# EAGLE library part TMS320F2806*PZ (library ic-TI-DSP)
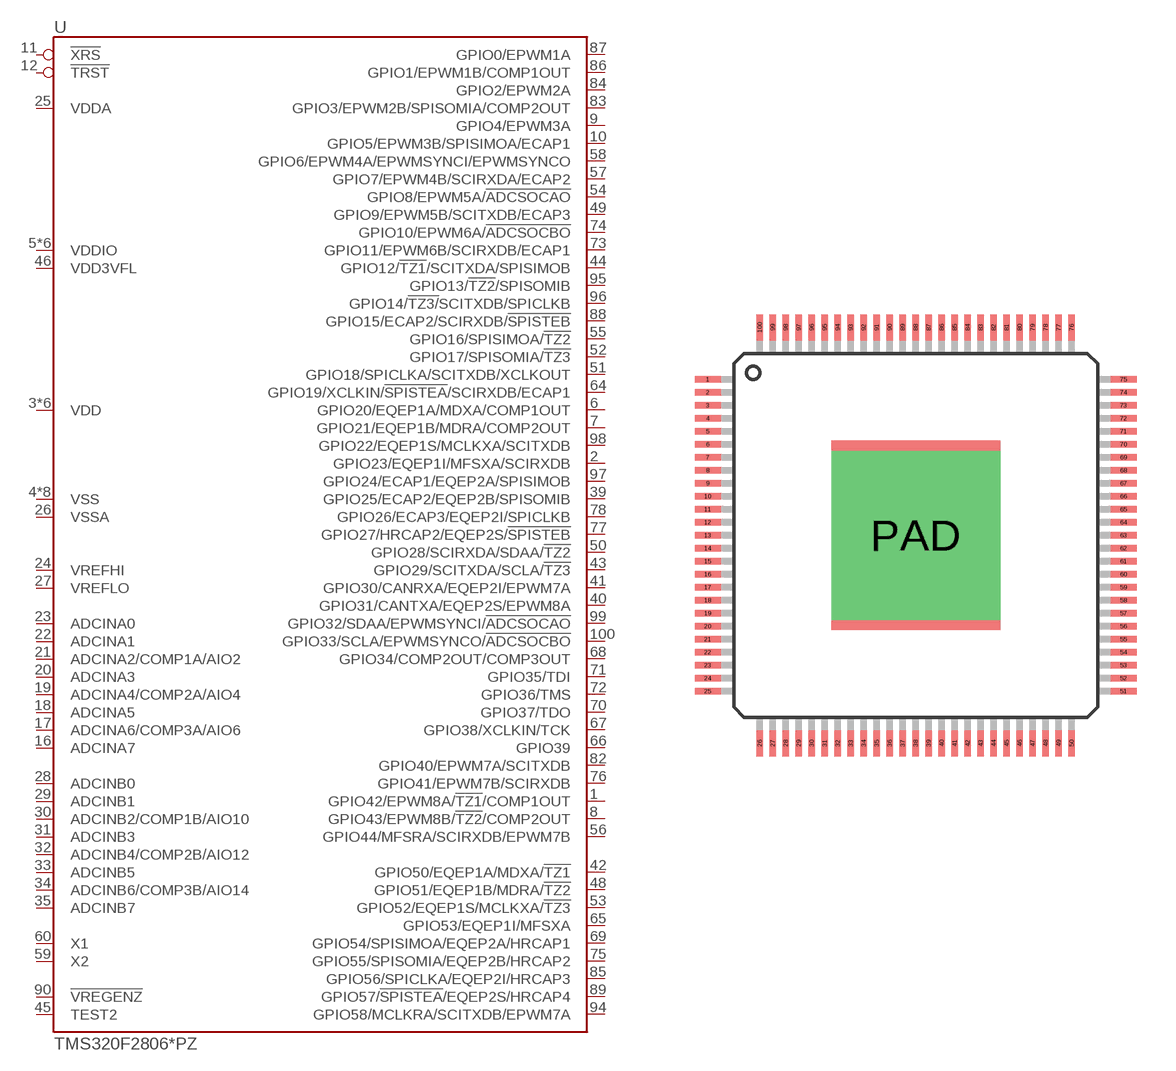
[diagram p4: symbol with the pads of QFP100-0.5-PAD; footprint QFP100-0.5-PAD]

Designator prefix U

## TMS320F28062PZP, TMS320F28063PZP, TMS320F28064PZP, TMS320F28065PZP, TMS320F28066PZP, TMS320F28067PZP, TMS320F28068PZP, TMS320F28069PZP  [QFP100-0.5-PAD]
1  GPIO42/EPWM8A/!TZ1!/COMP1OUT
2  GPIO23/EQEP1I/MFSXA/SCIRXDB
3  VDD
4  VSS
5  VDDIO
6  GPIO20/EQEP1A/MDXA/COMP1OUT
7  GPIO21/EQEP1B/MDRA/COMP2OUT
8  GPIO43/EPWM8B/!TZ2!/COMP2OUT
9  GPIO4/EPWM3A
10  GPIO5/EPWM3B/SPISIMOA/ECAP1
11  !XRS
12  !TRST
13  VDDIO
14  VDD
15  VSS
16  ADCINA7
17  ADCINA6/COMP3A/AIO6
18  ADCINA5
19  ADCINA4/COMP2A/AIO4
20  ADCINA3
21  ADCINA2/COMP1A/AIO2
22  ADCINA1
23  ADCINA0
24  VREFHI
25  VDDA
26  VSSA
27  VREFLO
28  ADCINB0
29  ADCINB1
30  ADCINB2/COMP1B/AIO10
31  ADCINB3
32  ADCINB4/COMP2B/AIO12
33  ADCINB5
34  ADCINB6/COMP3B/AIO14
35  ADCINB7
36  VSS
37  VDD
38  VDDIO
39  GPIO25/ECAP2/EQEP2B/SPISOMIB
40  GPIO31/CANTXA/EQEP2S/EPWM8A
41  GPIO30/CANRXA/EQEP2I/EPWM7A
42  GPIO50/EQEP1A/MDXA/!TZ1!
43  GPIO29/SCITXDA/SCLA/!TZ3!
44  GPIO12/!TZ1!/SCITXDA/SPISIMOB
45  TEST2
46  VDD3VFL
47  VSS
48  GPIO51/EQEP1B/MDRA/!TZ2!
49  GPIO9/EPWM5B/SCITXDB/ECAP3
50  GPIO28/SCIRXDA/SDAA/!TZ2!
51  GPIO18/SPICLKA/SCITXDB/XCLKOUT
52  GPIO17/SPISOMIA/!TZ3!
53  GPIO52/EQEP1S/MCLKXA/!TZ3!
54  GPIO8/EPWM5A/!ADCSOCAO!
55  GPIO16/SPISIMOA/!TZ2!
56  GPIO44/MFSRA/SCIRXDB/EPWM7B
57  GPIO7/EPWM4B/SCIRXDA/ECAP2
58  GPIO6/EPWM4A/EPWMSYNCI/EPWMSYNCO
59  X2
60  X1
61  VDDIO
62  VSS
63  VDD
64  GPIO19/XCLKIN/!SPISTEA!/SCIRXDB/ECAP1
65  GPIO53/EQEP1I/MFSXA
66  GPIO39
67  GPIO38/XCLKIN/TCK
68  GPIO34/COMP2OUT/COMP3OUT
69  GPIO54/SPISIMOA/EQEP2A/HRCAP1
70  GPIO37/TDO
71  GPIO35/TDI
72  GPIO36/TMS
73  GPIO11/EPWM6B/SCIRXDB/ECAP1
74  GPIO10/EPWM6A/!ADCSOCBO!
75  GPIO55/SPISOMIA/EQEP2B/HRCAP2
76  GPIO41/EPWM7B/SCIRXDB
77  GPIO27/HRCAP2/EQEP2S/!SPISTEB!
78  GPIO26/ECAP3/EQEP2I/SPICLKB
79  VDDIO
80  VSS
81  VDD
82  GPIO40/EPWM7A/SCITXDB
83  GPIO3/EPWM2B/SPISOMIA/COMP2OUT
84  GPIO2/EPWM2A
85  GPIO56/SPICLKA/EQEP2I/HRCAP3
86  GPIO1/EPWM1B/COMP1OUT
87  GPIO0/EPWM1A
88  GPIO15/ECAP2/SCIRXDB/!SPISTEB!
89  GPIO57/!SPISTEA!/EQEP2S/HRCAP4
90  !VREGENZ
91  VDD
92  VSS
93  VDDIO
94  GPIO58/MCLKRA/SCITXDB/EPWM7A
95  GPIO13/!TZ2!/SPISOMIB
96  GPIO14/!TZ3/!SCITXDB/SPICLKB
97  GPIO24/ECAP1/EQEP2A/SPISIMOB
98  GPIO22/EQEP1S/MCLKXA/SCITXDB
99  GPIO32/SDAA/EPWMSYNCI/!ADCSOCAO!
100  GPIO33/SCLA/EPWMSYNCO/!ADCSOCBO!
PAD  VSS

## Footprint QFP100-0.5-PAD (pad centres in mm)
smd 1 x 0.25: 1 -8,6; 2 -8,5.5; 3 -8,5; 4 -8,4.5; 5 -8,4; 6 -8,3.5; 7 -8,3; 8 -8,2.5; 9 -8,2; 10 -8,1.5; 11 -8,1; 12 -8,0.5; 13 -8,0; 14 -8,-0.5; 15 -8,-1; 16 -8,-1.5; 17 -8,-2; 18 -8,-2.5; 19 -8,-3; 20 -8,-3.5; 21 -8,-4; 22 -8,-4.5; 23 -8,-5; 24 -8,-5.5; 25 -8,-6; 51 8,-6; 52 8,-5.5; 53 8,-5; 54 8,-4.5; 55 8,-4; 56 8,-3.5; 57 8,-3; 58 8,-2.5; 59 8,-2; 60 8,-1.5; 61 8,-1; 62 8,-0.5; 63 8,0; 64 8,0.5; 65 8,1; 66 8,1.5; 67 8,2; 68 8,2.5; 69 8,3; 70 8,3.5; 71 8,4; 72 8,4.5; 73 8,5; 74 8,5.5; 75 8,6
smd 0.25 x 1: 26 -6,-8; 27 -5.5,-8; 28 -5,-8; 29 -4.5,-8; 30 -4,-8; 31 -3.5,-8; 32 -3,-8; 33 -2.5,-8; 34 -2,-8; 35 -1.5,-8; 36 -1,-8; 37 -0.5,-8; 38 0,-8; 39 0.5,-8; 40 1,-8; 41 1.5,-8; 42 2,-8; 43 2.5,-8; 44 3,-8; 45 3.5,-8; 46 4,-8; 47 4.5,-8; 48 5,-8; 49 5.5,-8; 50 6,-8; 76 6,8; 77 5.5,8; 78 5,8; 79 4.5,8; 80 4,8; 81 3.5,8; 82 3,8; 83 2.5,8; 84 2,8; 85 1.5,8; 86 1,8; 87 0.5,8; 88 0,8; 89 -0.5,8; 90 -1,8; 91 -1.5,8; 92 -2,8; 93 -2.5,8; 94 -3,8; 95 -3.5,8; 96 -4,8; 97 -4.5,8; 98 -5,8; 99 -5.5,8; 100 -6,8
drill 3.3 pad 6.5 square: PAD 0,0